# EAGLE library part DOTSTAR (library codenext2020)
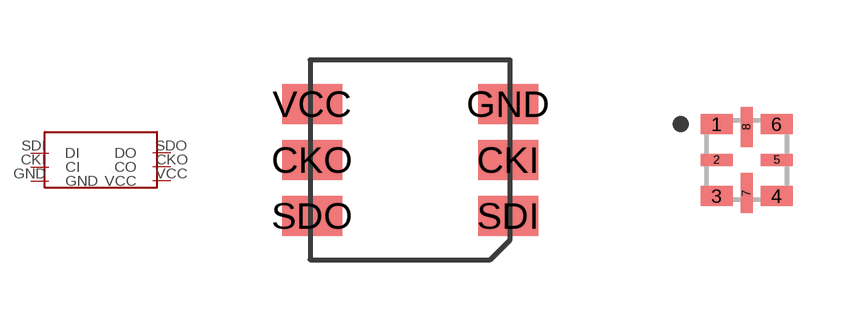
[diagram p1: symbol with the pads of SK9822; footprints SK9822, LED_3341]

Designator prefix LED

## DOTSTARSK9822  [SK9822]
CKI  CI  in
CKO  CO  out
GND  GND  sup
SDI  DI  in
SDO  DO  out
VCC  VCC  sup

## DOTSTAR2020  [LED_3341]
1  VCC  sup
2  CO  out
3  DO  out
4  DI  in
5  CI  in
6  GND  sup
7  GND  sup
8  VCC  sup

## Footprint SK9822 (pad centres in mm)
smd 1.5 x 1: CKI 2.45,0; CKO -2.45,0; GND 2.45,1.4; SDI 2.45,-1.4; SDO -2.45,-1.4; VCC -2.45,1.4

## Footprint LED_3341 (pad centres in mm)
smd 0.8 x 0.5: 1 -0.75,0.9; 3 -0.75,-0.9; 4 0.75,-0.9; 6 0.75,0.9
smd 0.8 x 0.3: 2 -0.75,0; 5 0.75,0
smd 0.3 x 1: 7 0,-0.83; 8 0,0.83